# Altium schematic symbol library CCjammerRev2.SCHLIB: 8 symbols
Pins are listed as number, name and electrical type; pins without a type are passive.

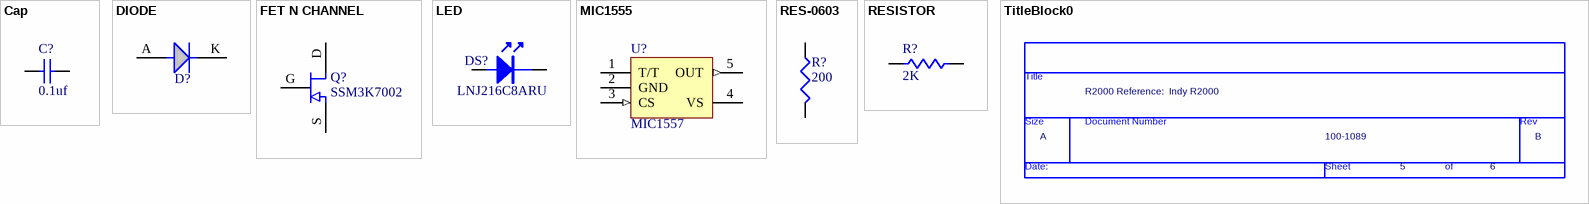
[diagram p0: symbols Cap to TitleBlock0]

## Cap
designator C?, comment 0.1uf
Capacitor; VALUE: 0.1uf
footprint 0603_072205 (SM)
pins: 1, 2

## DIODE
designator D?, comment 1SS416  (value not drawn)
PARTNO: 1SS416(TL4D)TR-ND; MFG: Toshiba; VALUE: Diode; VALUE: 1SS416
footprint DIODE_FSC_091912 (SMT)
pins: A, K

## FET N CHANNEL
designator Q?, comment SSM3K7002
PARTNO: SSM3K7002BFU; MFG: Toshiba; VALUE: SSM3K7002; DK: SSM3K7002BFU(T5LFTR-ND
footprint SOT23 SMALL_FET_012005 (SMT)
pins: D, G, S

## LED
designator DS?, comment LNJ216C8ARU
MANUFACTURER: Panasonic; ITEM-DESCRIPTION: LED RED THRU BOARD W/LENS 1206; MFGR-P/N: P11544TR-ND; ACTIVEWAVE-P/N: *; VALUE: LNJ216C8ARU
footprint 404-1032-2-ND
pins: A, K

## MIC1555
designator U?, comment MIC1557
PARTNO: MIC1557YM5; MFG: Micrel; VALUE: MIC1557
footprint SOT25_030205 (SMT)
pins: 1 T/T, 2 GND (power), 3 CS (in), 4 VS (power), 5 OUT (out)

## RES-0603
designator R?, comment 200
ACTIVEWAVE-P/N: *; MFGR-P/N: *; MANUFACTURER: *; ITEM-DESCRIPTION: *; VALUE: 200
footprint 0603 (Medium Density 0603)
pins: 1, 2

## RESISTOR
designator R?, comment 2K
PARTNO: RES-0000; VALUE: 2K
footprint 0603_072205 (SM)
pins: 1, 2

## TitleBlock0
designator *?  Page Count: 6  Page Number: 5  Page Size: A  Title: R2000 Reference:  Indy R2000  RevCode: B  Doc: 100-1089  (hidden comment: TitleBlock0)  (graphical)
Page Create Date: March  8, 1995
text: Title; Size; Document Number; Rev; Date:; Sheet; of